# Altium footprint library 54-00133.PcbLib: 1 footprints
Each footprint in its own frame and in the unit in brackets; x right, y up, seen from the top. Pads: shape width x height; smd on the part's side, far side on the other; paste and mask are expansions set on the pad; w line width, h text height; cw(c..) or ccw(c..) is an arc to the next point about the centre after c.
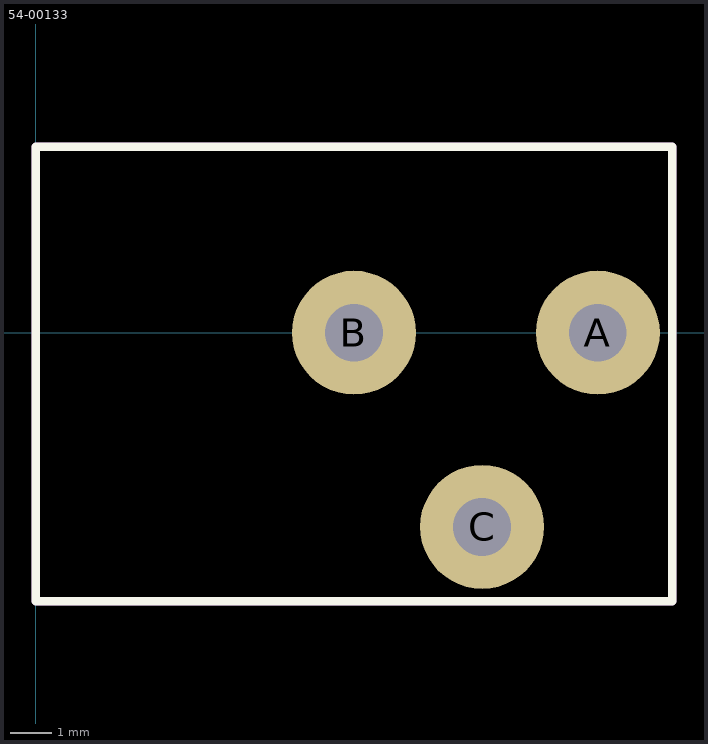
[diagram p0: the footprint, top view; thin cyan lines are the x and y axes]

## 54-00133 [mm]
pads (3):
  round 3 hole 1.4: A(13.6,0) B(7.7,0) C(10.8,-4.7)
Top Overlay:
  lines w0.2: 0,-6.5 0,4.5 15.4,4.5 15.4,-6.5 0,-6.5
Top Assembly:
  lines w0.2: 0,-6.5 0,4.5 15.4,4.5 15.4,-6.5 0,-6.5
  text "'.Designator'" at 0.825,-3.1 h0.7
3D body "54-00133.STEP": height 10.8, standoff -3.5, extent 0,-4.86 14.4,4.5